# Altium schematic symbol library GCM1885C2A100JA16D.SchLib: 1 symbol
Pins are listed as number, name and electrical type; pins without a type are passive.

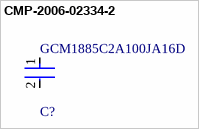
[diagram p0: symbol CMP-2006-02334-2]

## CMP-2006-02334-2
designator C?, comment GCM1885C2A100JA16D
Ceramic Capacitor for Automotive 10pF  ±5% 100VDC C0G 0603 Paper T/R; Voltage Rating: 100V; Package Quantity: 4000; Length: 1.6mm; Case Code (Metric): 1608; Thickness: 0.035inch; Tolerance: 5%; Height: 0.8mm; Mount: Surface Mount; Radiation Hardening: No; Termination: SMD/SMT; Packaging: Tape and Reel; Ratings: AEC-Q200; Depth: 0.8mm; Case/Package: 0603; Case Code (Imperial): 0603; Lead Free: Lead Free; Width: 0.031inch; Min Operating Temperature: -55°C; Dielectric: C0G; Max Operating Temperature: 125°C; Capacitance: 10pF; Voltage Rating (DC): 100V
footprint FP-GCM188-0_1-MFG
footprint FP-GCM188-0_1-IPC_B
footprint FP-GCM188-0_1-IPC_C
footprint FP-GCM188-0_1-IPC_A
pins: 1, 2